# Altium footprint library 61301611821.PcbLib: 1 footprints
Each footprint in its own frame and in the unit in brackets; x right, y up, seen from the top. Pads: shape width x height; smd on the part's side, far side on the other; paste and mask are expansions set on the pad; w line width, h text height; cw(c..) or ccw(c..) is an arc to the next point about the centre after c.
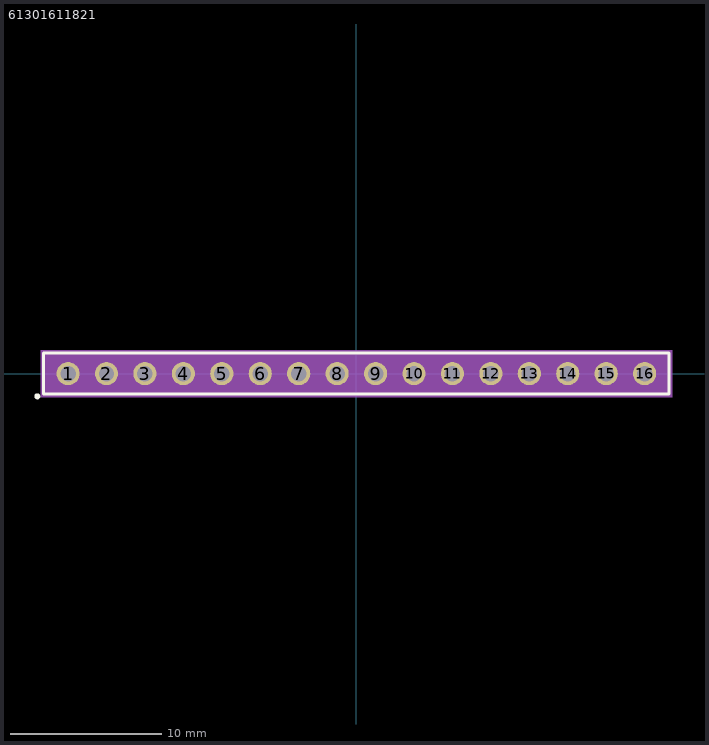
[diagram p0: the footprint, top view; thin cyan lines are the x and y axes]

## 61301611821 [mm]
pads (16):
  round 1.53 hole 1.02: 1(-19.05,0) 2(-16.51,0) 3(-13.97,0) 4(-11.43,0) 5(-8.89,0) 6(-6.35,0) 7(-3.81,0) 8(-1.27,0) 9(1.27,0) 10(3.81,0) 11(6.35,0) 12(8.89,0) 13(11.43,0) 14(13.97,0) 15(16.51,0) 16(19.05,0)
Top Overlay:
  circle w0.2: c-21.08,-1.5 r0.1
  lines w0.2: -20.67,-1.35 20.67,-1.35 20.67,1.35 -20.67,1.35 -20.67,-1.35
Assembly Top:
  lines w0.1: -20.57,-1.25 20.57,-1.25 20.57,1.25 -20.57,1.25 -20.57,-1.25
Courtyard Top:
  region: 20.87,-1.55 -20.87,-1.55 -20.87,1.55 20.87,1.55